# Altium footprint library PCB - LEADLESS - DFN - MICROCHIP UDFN-8 Q4B.PcbLib: 1 footprints
Each footprint in its own frame and in the unit in brackets; x right, y up, seen from the top. Pads: shape width x height; smd on the part's side, far side on the other; paste and mask are expansions set on the pad; w line width, h text height; cw(c..) or ccw(c..) is an arc to the next point about the centre after c.
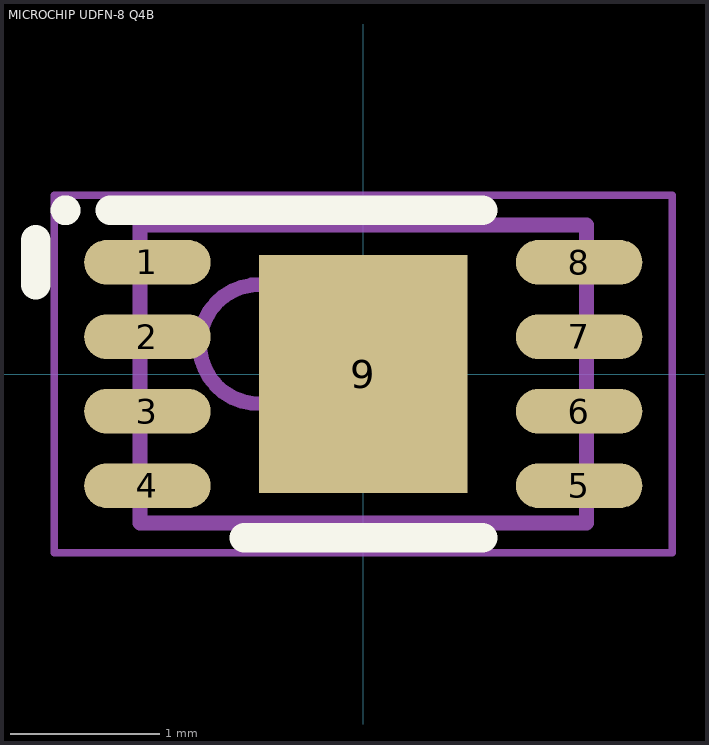
[diagram p0: the footprint, top view; thin cyan lines are the x and y axes]

## MICROCHIP UDFN-8 Q4B [mm] "UDFN, 8-Leads, Body 3.00x2.00mm, Pitch 0.50mm, Thermal Pad 1.40x1.60mm"
height 0.6
pads (9):
  oval 0.85x0.3 smd: 1(-1.45,0.75) 2(-1.45,0.25) 3(-1.45,-0.25) 4(-1.45,-0.75) 5(1.45,-0.75) 6(1.45,-0.25) 7(1.45,0.25) 8(1.45,0.75)
  rect 1.4x1.6 smd: 9(0,0)
Top Overlay:
  circle w0.1: c-2,1.1 r0.05
  lines w0.2: -2.2,0.6 -2.2,0.9 ; -1.7,1.1 0.8,1.1 ; -0.8,-1.1 0.8,-1.1
Mechanical 13:
  circle w0.1: c-0.7,0.2 r0.4
  lines w0.1: -1.5,-1 -1.5,1 1.5,1 1.5,-1 -1.5,-1
Mechanical 15:
  lines w0.05: -2.075,-1.2 -2.075,1.2 2.075,1.2 2.075,-1.2 -2.075,-1.2
  lines w0.1: -0.5,0 0.5,0 ; 0,-0.5 0,0.5
3D body "MICROCHIP UDFN-8 Q4B.step": height 0.6, standoff 0, extent -1.51,-1 1.51,1